# Altium footprint library PCB1.PcbLib: 15 footprints
Each footprint in its own frame and in the unit in brackets; x right, y up, seen from the top. Pads: shape width x height; smd on the part's side, far side on the other; paste and mask are expansions set on the pad; w line width, h text height; cw(c..) or ccw(c..) is an arc to the next point about the centre after c.
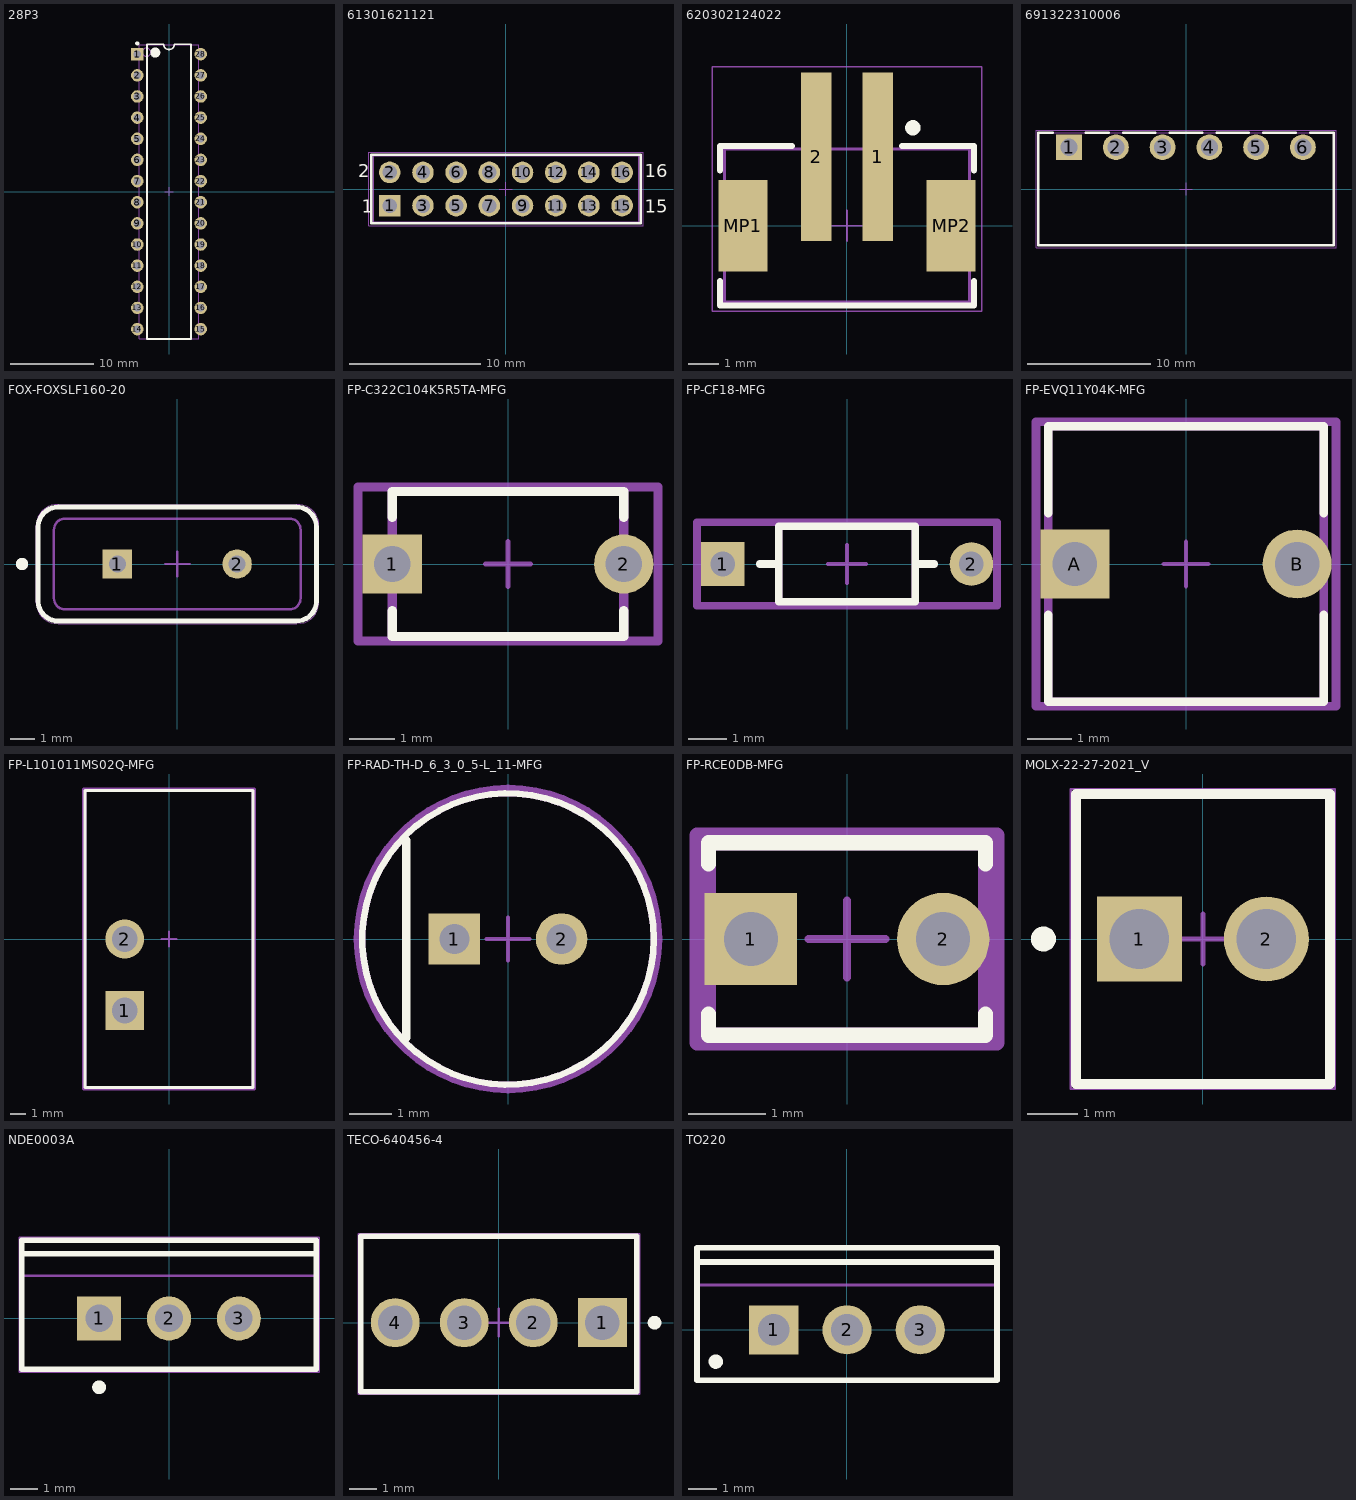
[diagram p0: the footprints below, top view; thin cyan lines are the x and y axes]

## 28P3 [mm]
pads (28):
  rect 1.5x1.5 hole 0.9: 1(-3.81,16.51)
  round 1.5 hole 0.9: 2(-3.81,13.97) 3(-3.81,11.43) 4(-3.81,8.89) 5(-3.81,6.35) 6(-3.81,3.81) 7(-3.81,1.27) 8(-3.81,-1.27) 9(-3.81,-3.81) 10(-3.81,-6.35) 11(-3.81,-8.89) 12(-3.81,-11.43) 13(-3.81,-13.97) 14(-3.81,-16.51) 15(3.81,-16.51) 16(3.81,-13.97) 17(3.81,-11.43) 18(3.81,-8.89) 19(3.81,-6.35) 20(3.81,-3.81) 21(3.81,-1.27) 22(3.81,1.27) 23(3.81,3.81) 24(3.81,6.35) 25(3.81,8.89) 26(3.81,11.43) 27(3.81,13.97) 28(3.81,16.51)
Top Overlay:
  circle w0.6: c-1.65,16.7 r0.3
  circle w0.25: c-3.81,17.81 r0.125
  lines w0.2: -2.65,-17.7 2.65,-17.7 2.65,17.7 0.635,17.7 cw(c0,17.7) -0.635,17.7 -2.65,17.7 -2.65,-17.7
Top 3D Body:
  circle w0.1: c-2.7,16.75 r0.5
  lines w0.1: -3.6,-17.65 3.6,-17.65 3.6,17.65 -3.6,17.65 -3.6,-17.65
Top Courtyard:
  lines w0.1: -0.5,0 0.5,0 ; 0,-0.5 0,0.5
3D body: height 4.58, standoff 0, extent -3.6,-17.65 3.6,17.65

## 61301621121 [mm]
pads (16):
  rect 1.65x1.65 hole 1.1: 1(-8.89,-1.27)
  round 1.65 hole 1.1: 2(-8.89,1.27) 3(-6.35,-1.27) 4(-6.35,1.27) 5(-3.81,-1.27) 6(-3.81,1.27) 7(-1.27,-1.27) 8(-1.27,1.27) 9(1.27,-1.27) 10(1.27,1.27) 11(3.81,-1.27) 12(3.81,1.27) 13(6.35,-1.27) 14(6.35,1.27) 15(8.89,-1.27) 16(8.89,1.27)
Top Overlay:
  lines w0.2: -10.31,-2.615 -10.31,2.615 10.31,2.615 10.31,-2.615 -10.31,-2.615
  text "16" at 10.62,0.9 h1.02
  text "15" at 10.62,-1.8 h1.02
  text "1" at -11.02,-1.8 h1.02
  text "2" at -11.32,0.9 h1.02
Top 3D Body:
  lines w0.1: -10.16,-2.54 -10.16,2.54 10.16,2.54 10.16,-2.54 -10.16,-2.54
Top Courtyard:
  lines w0.05: -0.5,0 0.5,0 ; 0,-0.5 0,0.5 ; -10.51,-2.815 10.51,-2.815 10.51,2.815 -10.51,2.815 -10.51,-2.815
3D body "61301621121.stp": height 8.59, standoff -2.95, extent -10.16,-2.54 10.16,2.54

## 620302124022 [mm]
pads (4):
  rect 1x5.5 smd: 1(1,2.25) 2(-1,2.25)
  rect 1.6x3 smd: MP1(-3.4,0) MP2(3.4,0)
Top Overlay:
  circle w0.25: c2.15,3.2 r0.125
  lines w0.2: -4.15,-1.8 -4.15,-2.6 4.15,-2.6 4.15,-1.8 ; -4.15,1.8 -4.15,2.6 -1.8,2.6 ; 1.8,2.6 4.15,2.6 4.15,1.8
Top 3D Body:
  lines w0.1: -4,-2.5 -4,2.5 4,2.5 4,-2.5 -4,-2.5
Top Courtyard:
  lines w0.05: -0.5,0 0.5,0 ; 0,-0.5 0,0.5 ; -4.4,-2.8 4.4,-2.8 4.4,5.2 -4.4,5.2 -4.4,-2.8
3D body "620302124022.stp": height 6.77, standoff -0.01, extent -4,-2.5 4,4.51

## 691322310006 [mm]
pads (6):
  rect 2.1x2.1 hole 1.4: 1(-9.525,3.4)
  round 2.1 hole 1.4: 2(-5.715,3.4) 3(-1.905,3.4) 4(1.905,3.4) 5(5.715,3.4) 6(9.525,3.4)
Top Overlay:
  lines w0.2: -10.875,4.6 -12.025,4.6 -12.025,-4.6 12.025,-4.6 12.025,4.6 10.115,4.6 ; -8.175,4.6 -6.305,4.6 ; -5.125,4.6 -2.495,4.6 ; -1.315,4.6 1.315,4.6 ; 2.495,4.6 5.125,4.6 ; 6.305,4.6 8.935,4.6
Top 3D Body:
  lines w0.1: -12.025,-4.6 -12.025,4.6 12.025,4.6 12.025,-4.6 -12.025,-4.6
Top Courtyard:
  lines w0.05: -0.5,0 0.5,0 ; 0,-0.5 0,0.5 ; -12.225,-4.8 -12.225,4.8 12.225,4.8 12.225,-4.8 -12.225,-4.8
3D body "691322310006.stp": height 7.25, standoff -3.45, extent -12.025,-4.6 12.025,4.6

## FOX-FOXSLF160-20 [mm]
pads (2):
  rect 1.2x1.2 hole 0.7: 1(-2.44,0)
  round 1.2 hole 0.7: 2(2.44,0)
Top Overlay:
  circle w0.25: c-6.325,0 r0.125
  lines w0.2: -5.675,-1.5 ccw(c-4.85,-1.5) -4.85,-2.325 4.85,-2.325 ccw(c4.85,-1.5) 5.675,-1.5 5.675,1.5 ccw(c4.85,1.5) 4.85,2.325 -4.85,2.325 ccw(c-4.85,1.5) -5.675,1.5 -5.675,-1.5 ; -5.675,-1.5 -5.675,-1.5
Top 3D Body:
  lines w0.1: -5.675,-1.5 ccw(c-4.85,-1.5) -4.85,-2.325 4.85,-2.325 ccw(c4.85,-1.5) 5.675,-1.5 5.675,1.5 ccw(c4.85,1.5) 4.85,2.325 -4.85,2.325 ccw(c-4.85,1.5) -5.675,1.5 -5.675,-1.5 ; -5.675,-1.5 -5.675,-1.5 ; -5.025,-1.4 ccw(c-4.575,-1.4) -4.575,-1.85 4.575,-1.85 ccw(c4.575,-1.4) 5.025,-1.4 5.025,1.4 ccw(c4.575,1.4) 4.575,1.85 -4.575,1.85 ccw(c-4.575,1.4) -5.025,1.4 -5.025,-1.4
Top Courtyard:
  lines w0.05: -4.85,2.425 4.85,2.425 cw(c4.9,1.55) 5.775,1.6 5.775,-1.599 cw(c4.9,-1.549) 4.869,-2.425 ; -4.831,2.425 ccw(c-4.881,1.55) -5.756,1.6 -5.756,-1.599 ccw(c-4.881,-1.549) -4.85,-2.425 4.85,-2.425
  lines w0.1: -0.5,0 0.5,0 ; 0,-0.5 0,0.5
3D body: height 1, standoff 0, extent -5.675,-2.325 5.675,2.325
3D body: height 3.6, standoff 1, extent -5.025,-1.85 5.025,1.85

## FP-C322C104K5R5TA-MFG [mm]
pads (2):
  rect 1.3x1.3 hole 0.8 paste-1000 mask+0: 1(-2.54,0)
  round 1.3 hole 0.8 paste-1000 mask+0: 2(2.54,0)
Top Overlay:
  lines w0.2: -2.54,-1.025 -2.54,-1.59 2.54,-1.59 2.54,-1.025 ; -2.54,1.025 -2.54,1.59 2.54,1.59 2.54,1.025
Top Assembly:
  lines w0.2: -3.29,-1.69 -3.29,1.69 3.29,1.69 3.29,-1.69 -3.29,-1.69
  text ".Designator" at 0,0.188 h1
Top 3D Body:
  lines w0.2: -2.54,-1.59 -2.54,1.59 2.54,1.59 2.54,-1.59 -2.54,-1.59
Top Courtyard:
  lines w0.2: -3.29,-1.69 -3.29,1.69 3.29,1.69 3.29,-1.69 -3.29,-1.69
Top Component Center:
  lines w0.1: -0.5,0 0.5,0 ; 0,-0.5 0,0.5
3D body "Cap_Kemet_C322C104K5R5TA_eec.STEP": height 0.25, standoff 0, extent -3.29,-1.69 3.29,1.69

## FP-CF18-MFG [mm]
pads (2):
  rect 1.15x1.15 hole 0.65 paste-1000 mask+0: 1(-3.28,0)
  round 1.15 hole 0.65 paste-1000 mask+0: 2(3.28,0)
Top Overlay:
  lines w0.2: -2.305,0 -1.8,0 ; 1.8,0 2.305,0 ; -1.8,-1 -1.8,1 1.8,1 1.8,-1 -1.8,-1
Top Assembly:
  lines w0.2: -3.955,-1.1 -3.955,1.1 3.955,1.1 3.955,-1.1 -3.955,-1.1
  text ".Designator" at 0,0.188 h1
Top 3D Body:
  lines w0.2: -1.8,-1 -1.8,1 1.8,1 1.8,-1 -1.8,-1
Top Courtyard:
  lines w0.2: -3.955,-1.1 -3.955,1.1 3.955,1.1 3.955,-1.1 -3.955,-1.1
Top Component Center:
  lines w0.1: -0.5,0 0.5,0 ; 0,-0.5 0,0.5
3D body "Res_Stackpole_Electronics_CF18JT10K0_eec.STEP": height 0.25, standoff 0, extent -3.955,-1.1 3.955,1.1

## FP-EVQ11Y04K-MFG [mm]
pads (2):
  rect 1.55x1.55 hole 1 paste-1000 mask+0: A(-2.5,0)
  round 1.55 hole 1 paste-1000 mask+0: B(2.5,0)
Top Overlay:
  lines w0.2: -3.1,-1.15 -3.1,-3.1 3.1,-3.1 3.1,-1.15 ; -3.1,1.15 -3.1,3.1 3.1,3.1 3.1,1.15
Top Assembly:
  lines w0.2: -3.375,-3.2 -3.375,3.2 3.375,3.2 3.375,-3.2 -3.375,-3.2
  text ".Designator" at 0,0.188 h1
Top 3D Body:
  lines w0.2: -3.1,-3.1 -3.1,3.1 3.1,3.1 3.1,-3.1 -3.1,-3.1
Top Courtyard:
  lines w0.2: -3.375,-3.2 -3.375,3.2 3.375,3.2 3.375,-3.2 -3.375,-3.2
Top Component Center:
  lines w0.1: -0.5,0 0.5,0 ; 0,-0.5 0,0.5
3D body "Switch_Panasonic_EVQ11Y04K_eec.STEP": height 0.25, standoff 0, extent -3.375,-3.2 3.375,3.2

## FP-L101011MS02Q-MFG [mm]
pads (2):
  rect 2.5x2.5 hole 1.65 paste-1000 mask+0: 1(-2.85,-4.6)
  round 2.5 hole 1.65 paste-1000 mask+0: 2(-2.85,0)
Top Overlay:
  lines w0.2: -5.395,-9.55 -5.395,9.55 5.395,9.55 5.395,-9.55 -5.395,-9.55
Top Assembly:
  lines w0.2: -5.495,-9.65 -5.495,9.65 5.495,9.65 5.495,-9.65 -5.495,-9.65
  text ".Designator" at 0,-0.001 h1
Top 3D Body:
  lines w0.2: -5.395,-9.55 -5.395,9.55 5.395,9.55 5.395,-9.55 -5.395,-9.55
Top Courtyard:
  lines w0.2: -5.495,-9.65 -5.495,9.65 5.495,9.65 5.495,-9.65 -5.495,-9.65
Top Component Center:
  lines w0.1: -0.5,0 0.5,0 ; 0,-0.5 0,0.5
3D body "Switch_C&K_Components_L101011MS02Q_eec.STEP": height 0.25, standoff 0, extent -5.495,-9.65 5.495,9.65

## FP-RAD-TH-D_6_3_0_5-L_11-MFG [mm]
pads (2):
  rect 1.2x1.2 hole 0.7 paste-1000 mask+0: 1(-1.25,0)
  round 1.2 hole 0.7 paste-1000 mask+0: 2(1.25,0)
Top Overlay:
  circle w0.15: c0,0 r3.4
  lines w0.2: -2.375,-2.3 -2.375,2.3
Top Assembly:
  text ".Designator" at 0,0.188 h1
Top 3D Body:
  circle w0.15: c0,0 r3.4
Top Courtyard:
  lines w0.2: -3.5,0 ccw(c0,0) 3.5,0 ccw(c0,0) -3.5,0
Top Component Center:
  lines w0.1: -0.5,0 0.5,0 ; 0,-0.5 0,0.5
3D body "Cap_Panasonic_EEUFC1H330_eec.STEP": height 0.25, standoff 0, extent -3.5,-3.5 3.5,3.5

## FP-RCE0DB-MFG [mm]
pads (2):
  rect 1.2x1.2 hole 0.7 paste-1000 mask+0: 1(-1.25,0)
  round 1.2 hole 0.7 paste-1000 mask+0: 2(1.25,0)
Top Overlay:
  lines w0.2: -1.8,-0.975 -1.8,-1.25 1.8,-1.25 1.8,-0.975 ; -1.8,0.975 -1.8,1.25 1.8,1.25 1.8,0.975
Top Assembly:
  lines w0.2: -1.95,-1.35 -1.95,1.35 1.95,1.35 1.95,-1.35 -1.95,-1.35
  text ".Designator" at 0,0.188 h1
Top 3D Body:
  lines w0.2: -1.8,-1.25 -1.8,1.25 1.8,1.25 1.8,-1.25 -1.8,-1.25
Top Courtyard:
  lines w0.2: -1.95,-1.35 -1.95,1.35 1.95,1.35 1.95,-1.35 -1.95,-1.35
Top Component Center:
  lines w0.1: -0.5,0 0.5,0 ; 0,-0.5 0,0.5
3D body "Cap_Murata_RCER72A152K0DBH03A_eec.STEP": height 0.25, standoff 0, extent -1.95,-1.35 1.95,1.35

## MOLX-22-27-2021_V [mm]
pads (2):
  rect 1.7x1.7 hole 1.19: 1(-1.27,0)
  round 1.7 hole 1.19: 2(1.27,0)
Top Overlay:
  circle w0.25: c-3.19,0 r0.125
  lines w0.2: -2.54,-2.9 2.54,-2.9 2.54,2.9 -2.54,2.9 -2.54,-2.9
Top 3D Body:
  lines w0.1: -2.54,-2.9 -2.54,2.9 2.54,2.9 2.54,-2.9 -2.54,-2.9
Top Courtyard:
  lines w0.05: -2.64,-3 2.64,-3 2.64,3 -2.64,3 -2.64,-3
  lines w0.1: -0.5,0 0.5,0 ; 0,-0.5 0,0.5
3D body "022272021.stp": height 11.72, standoff -3.54, extent -2.54,-2.9 2.54,2.9

## NDE0003A [mm]
pads (3):
  rect 1.6x1.6 hole 1: 1(-2.54,0)
  round 1.6 hole 1: 2(0,0) 3(2.54,0)
Top Overlay:
  circle w0.25: c-2.54,-2.5 r0.125
  lines w0.2: -5.35,2.35 5.35,2.35 ; -5.35,-1.85 5.35,-1.85 5.35,2.85 -5.35,2.85 -5.35,-1.85
Mechanical 1:
  text ".Designator" at -1.524,-0.508 h1.02
Top 3D Body:
  lines w0.1: -5.35,1.55 5.35,1.55 ; -5.35,-1.85 5.35,-1.85 5.35,2.85 -5.35,2.85 -5.35,-1.85
Top Courtyard:
  lines w0.05: -5.45,-1.95 -5.45,2.95 5.45,2.95 5.45,-1.95 -5.45,-1.95
  lines w0.1: -0.5,0 0.5,0 ; 0,-0.5 0,0.5
3D body: height 19.4, standoff 12.9, extent -5.349,1.551 5.349,2.849
3D body: height 12.9, standoff 4, extent -5.4,-1.9 5.4,2.9

## TECO-640456-4 [mm]
pads (4):
  rect 1.8x1.8 hole 1.27 paste+0: 1(3.81,0)
  round 1.8 hole 1.27 paste+0: 2(1.27,0) 3(-1.27,0) 4(-3.81,0)
Top Overlay:
  circle w0.25: c5.732,0 r0.127
  lines w0.2: -5.08,-2.54 5.08,-2.54 5.08,3.18 -5.08,3.18 -5.08,-2.54
Top 3D Body:
  lines w0.1: -5.08,-2.54 -5.08,3.18 5.08,3.18 5.08,-2.54 -5.08,-2.54
Top Courtyard:
  lines w0.05: -5.18,-2.64 5.18,-2.64 5.18,3.28 -5.18,3.28 -5.18,-2.64
  lines w0.1: -0.5,0 0.5,0 ; 0,-0.5 0,0.5
3D body: height 10.03, standoff -3.56, extent -1.59,-0.32 -0.95,0.32
3D body: height 10.03, standoff -3.56, extent 0.95,-0.32 1.59,0.32
3D body: height 10.03, standoff -3.56, extent 3.49,-0.32 4.13,0.32
3D body: height 10.03, standoff -3.56, extent -4.13,-0.32 -3.49,0.32
3D body: height 2.54, standoff 0, extent -5.08,-2.54 5.08,3.175
3D body: height 7.87, standoff 2.54, extent -3.81,1.651 3.81,3.18

## TO220 [mm]
pads (3):
  rect 1.7x1.7 hole 1.1: 1(-2.54,0)
  round 1.7 hole 1.1: 2(0,0) 3(2.54,0)
Top Overlay:
  circle w0.25: c-4.55,-1.1 r0.125
  lines w0.2: -5.2,2.35 5.2,2.35 ; -5.2,-1.75 -5.2,2.85 5.2,2.85 5.2,-1.75 -5.2,-1.75
Top 3D Body:
  lines w0.1: -5.2,1.55 5.2,1.55 ; -5.2,-1.75 5.2,-1.75 5.2,2.85 -5.2,2.85 -5.2,-1.75
Top Courtyard:
  lines w0.1: -0.5,0 0.5,0 ; 0,-0.5 0,0.5
3D body: height 19.7, standoff 13.05, extent -5.199,1.551 5.199,2.849
3D body: height 13.05, standoff 3.5, extent -5.25,-1.8 5.25,2.9